# Altium schematic symbol library SPSTx1.SchLib: 1 symbol
Pins are listed as number, name and electrical type; pins without a type are passive.

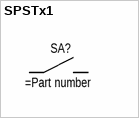
[diagram p0: symbol SPSTx1]

## SPSTx1
designator SA?
ValueManufacturerPartNumber: Tactile button, *; TypeButton: Tactile button; Manufacturer: *; HelpURL: *; PartNumber: *; Package: *
pins: 1, 2